# EAGLE library part HEADER_6PIN (library yapo)
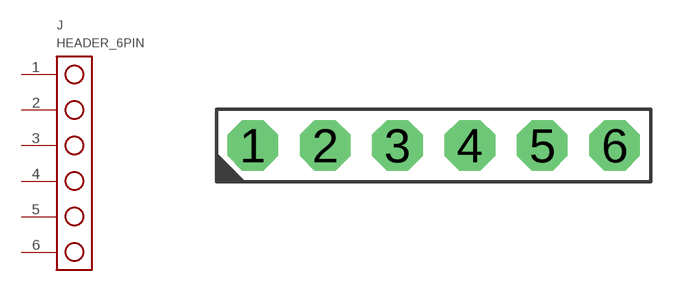
[diagram p11: symbol with the pads of HEADER_6PIN; footprint HEADER_6PIN]

Designator prefix J

## HEADER_6PIN  [HEADER_6PIN]
1  1
2  2
3  3
4  4
5  5
6  6

## Footprint HEADER_6PIN (pad centres in mm)
drill 1 pad 1.778 octagon: 1 -6.35,0; 2 -3.81,0; 3 -1.27,0; 4 1.27,0; 5 3.81,0; 6 6.35,0